# Altium footprint library PcbLib1.PcbLib: 8 footprints
Each footprint in its own frame and in the unit in brackets; x right, y up, seen from the top. Pads: shape width x height; smd on the part's side, far side on the other; paste and mask are expansions set on the pad; w line width, h text height; cw(c..) or ccw(c..) is an arc to the next point about the centre after c.
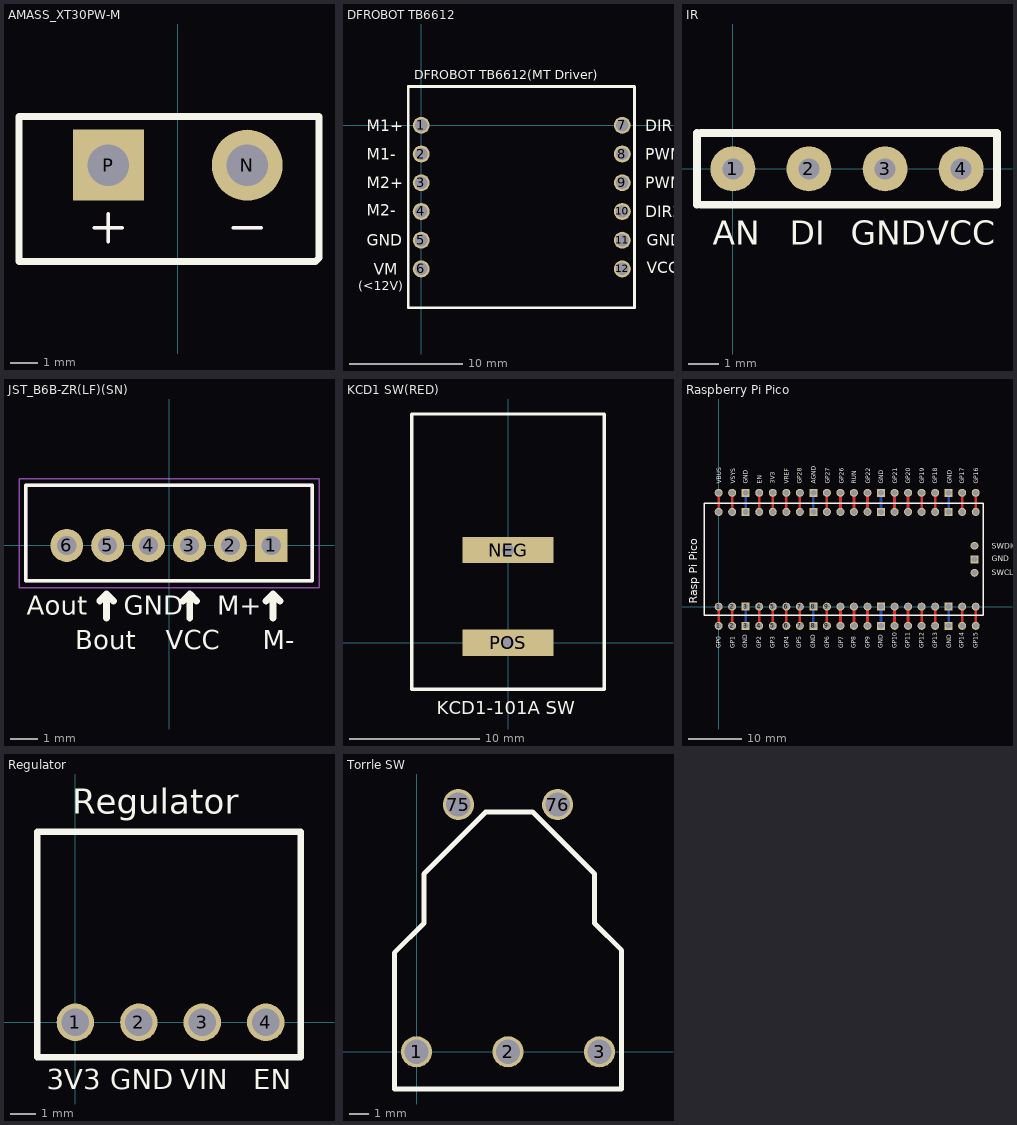
[diagram p0: the footprints below, top view; thin cyan lines are the x and y axes]

## AMASS_XT30PW-M [mm]
height 5
pads (2):
  round 2.55 hole 1.5: N(2.5,-10)
  rect 2.55x2.55 hole 1.5: P(-2.5,-10)
Top Overlay:
  lines w0.127: -3,-12.25 -2,-12.25 ; -2.5,-12.75 -2.5,-11.75 ; 2,-12.25 3,-12.25
  lines w0.254: -5.715,-13.462 4.953,-13.462 5.08,-13.335 5.08,-12.7 5.08,-8.255 -5.715,-8.255 -5.715,-13.462
Mechanical 13:
  lines w0.127: -3,-12.25 -2,-12.25 ; -2.5,-12.75 -2.5,-11.75 ; 2,-12.25 3,-12.25

## DFROBOT TB6612 [mm]
pads (12):
  round 1.5 hole 1.1: 1(0,0) 2(0,-2.54) 3(0,-5.08) 4(0,-7.62) 5(0,-10.16) 6(0,-12.7) 7(17.78,0) 8(17.78,-2.54) 9(17.78,-5.08) 10(17.78,-7.62) 11(17.78,-10.16) 12(17.78,-12.7)
Top Overlay:
  lines w0.254: -1.143,3.371 -1.143,-16.129 18.857,-16.129 18.857,3.371 ; -1.143,3.429 18.857,3.429
  text "(<12V)" at -5.588,-14.605 h0.8
  text "VM" at -4.191,-13.208 h1
  text "M2-" at -4.826,-8.001 h1
  text "VCC" at 19.939,-13.081 h1
  text "GND" at 19.939,-10.668 h1
  text "DIR2" at 19.812,-8.128 h1
  text "PWM2" at 19.812,-5.588 h1
  text "PWM1" at 19.812,-3.048 h1
  text "DIR1" at 19.812,-0.508 h1
  text "M1+" at -4.826,-0.508 h1
  text "M1-" at -4.826,-3.048 h1
  text "M2+" at -4.826,-5.588 h1
  text "GND" at -4.826,-10.668 h1
  text "DFROBOT TB6612(MT Driver)" at -0.635,4.064 h0.8

## IR [mm]
pads (4):
  round 1.5 hole 0.7: 1(0,0) 2(2.54,0) 3(5.08,0) 4(7.62,0)
Top Overlay:
  lines w0.254: -1.2,-1.2 -1.2,0 -1.2,1.2 ; -1.08,-1.2 8.82,-1.2 8.82,1.2 -1.08,1.2
  text "VCC" at 6.477,-2.54 h0.8
  text "AN" at -0.666,-2.54 h0.8
  text "DI" at 1.905,-2.54 h0.8
  text "GND" at 3.937,-2.54 h0.8
3D body "DS1023-14S21 angle type v3.step": height 1.2, standoff -3.1, extent -1.27,-0.254 8.89,10.799

## JST_B6B-ZR(LF)(SN) [mm]
height 4.5
pads (6):
  rect 1.208x1.208 / inner round 1.208 / far side rect 1.208x1.208 hole 0.7: 1(3.75,0)
  round 1.208 hole 0.7: 2(2.25,0) 3(0.75,0) 4(-0.75,0) 5(-2.25,0) 6(-3.75,0)
Top Overlay:
  lines w0.127: -5.25,-1.3 5.25,-1.3 5.25,2.2 -5.25,2.2 -5.25,-1.3
  lines w0.254: -2.54,-2.032 -2.286,-1.778 ; -2.286,-2.667 -2.286,-1.778 ; -2.032,-2.032 -2.286,-1.778 ; 0.508,-2.032 0.762,-1.778 ; 0.762,-2.667 0.762,-1.778 ; 1.016,-2.032 0.762,-1.778 ; 3.556,-2.032 3.81,-1.778 ; 3.81,-2.667 3.81,-1.778 ; 4.064,-2.032 3.81,-1.778
  text "M+" at 1.778,-2.54 h0.7
  text "M-" at 3.429,-3.81 h0.7
  text "VCC" at -0.127,-3.81 h0.7
  text "GND" at -1.651,-2.54 h0.7
  text "Bout" at -3.429,-3.81 h0.7
  text "Aout" at -5.207,-2.54 h0.7
Mechanical 13:
  lines w0.127: -5.25,-1.3 5.25,-1.3 5.25,2.2 -5.25,2.2 -5.25,-1.3
Mechanical 15:
  lines w0.05: -5.5,-1.55 5.5,-1.55 5.5,2.45 -5.5,2.45 -5.5,-1.55

## KCD1 SW(RED) [mm] "KCD1 SW(RED)"
pads (2):
  rect 7x2 hole 0.95 square: NEG(0,7.1)
  rect 7x2 hole 0.9 square: POS(0,0)
Top Overlay:
  lines w0.254: -7.366,-3.556 7.366,-3.556 7.366,17.526 -7.366,17.526 -7.366,-3.556
  text "KCD1-101A SW" at -5.461,-5.461 h1
3D body "Rocker Switch_KCD1-101_2pin.stp": height 17.84, standoff -5.8, extent -7.334,-3.565 7.366,17.535

## Raspberry Pi Pico [mm] "Raspberry Pi Pico"
pads (85):
  round 1.5 hole 1.1: 1(0,-3.596) 1(0,0) 2(2.54,-3.596) 2(2.54,0) 4(7.62,-3.596) 4(7.62,0) 5(10.16,-3.596) 5(10.16,0) 6(12.7,-3.596) 6(12.7,0) 7(15.24,-3.596) 7(15.24,0) 9(20.32,-3.596) 9(20.32,0) 10(22.86,-3.596) 10(22.86,0) 11(25.4,-3.596) 11(25.4,0) 12(27.94,-3.596) 12(27.94,0) 14(33.02,-3.596) 14(33.02,0) 15(35.56,-3.596) 15(35.56,0) 16(38.1,-3.596) 16(38.1,0) 17(40.64,-3.596) 17(40.64,0) 19(45.72,-3.596) 19(45.72,0) 20(48.26,-3.596) 20(48.26,0) 21(48.26,17.78) 21(48.26,21.376) 22(45.72,17.78) 22(45.72,21.376) 24(40.64,17.78) 24(40.64,21.376) 25(38.1,17.78) 25(38.1,21.376) 26(35.56,17.78) 26(35.56,21.376) 27(33.02,17.78) 27(33.02,21.376) 29(27.94,17.78) 29(27.94,21.376) 30(25.4,17.78) 30(25.4,21.376) 31(20.32,17.78) 31(20.32,21.376) 31(22.86,17.78) 31(22.86,21.376) 32(20.32,17.78) 32(20.32,21.376) 34(15.24,17.78) 34(15.24,21.376) 35(12.7,17.78) 35(12.7,21.376) 36(10.16,17.78) 36(10.16,21.376) 37(7.62,17.78) 37(7.62,21.376) 39(2.54,17.78) 39(2.54,21.376) 40(0,17.78) 40(0,21.376) SWCLK(48.03,6.35) SWDIO(48.03,11.43)
  rect 1.5x1.5 hole 1.1: 3(5.08,-3.596) 3(5.08,0) 8(17.78,-3.596) 8(17.78,0) 13(30.48,-3.596) 13(30.48,0) 18(43.18,-3.596) 18(43.18,0) 23(43.18,17.78) 23(43.18,21.376) 28(30.48,17.78) 28(30.48,21.376) 33(17.78,17.78) 33(17.78,21.376) 38(5.08,17.78) 38(5.08,21.376) GND(48.03,8.89)
Top Layer:
  lines w0.5: 0,-3.596 0,0 ; 0,17.78 0,21.376 ; 2.54,-3.596 2.54,0 ; 2.54,17.78 2.54,21.376 ; 7.62,-3.596 7.62,0 ; 7.62,17.78 7.62,21.376 ; 10.16,-3.596 10.16,0 ; 10.16,17.78 10.16,21.376 ; 12.7,-3.596 12.7,0 ; 12.7,17.78 12.7,21.376 ; 15.24,-3.596 15.24,0 ; 15.24,17.78 15.24,21.376 ; 20.32,-3.596 20.32,0 ; 20.32,17.78 20.32,21.376 ; 22.86,-3.596 22.86,0 ; 22.86,17.78 22.86,21.376 ; 25.4,-3.596 25.4,0 ; 25.4,17.78 25.4,21.376 ; 27.94,-3.596 27.94,0 ; 27.94,17.78 27.94,21.376 ; 33.02,-3.596 33.02,0 ; 33.02,17.78 33.02,21.376 ; 35.56,-3.596 35.56,0 ; 35.56,17.78 35.56,21.376 ; 38.1,-3.596 38.1,0 ; 38.1,17.78 38.1,21.376 ; 40.64,-3.596 40.64,0 ; 40.64,17.78 40.64,21.376 ; 45.72,-3.596 45.72,0 ; 45.72,17.78 45.72,21.376 ; 48.26,-3.596 48.26,0 ; 48.26,17.78 48.26,21.376
Bottom Layer:
  lines w0.5: 5.08,-3.596 5.08,0 ; 5.08,17.78 5.08,21.376 ; 17.78,-3.596 17.78,0 ; 17.78,17.78 17.78,21.376 ; 30.48,-3.596 30.48,0 ; 30.48,17.78 30.48,21.376 ; 43.18,-3.596 43.18,0 ; 43.18,17.78 43.18,21.376
Top Overlay:
  lines w0.254: -2.667,-1.651 -2.667,19.431 49.657,19.431 49.657,-1.651 -2.667,-1.651
  text "SWCLK" at 51.254,5.859 h1
  text "GND" at 51.254,8.491 h1
  text "SWDIO" at 51.254,10.888 h1
  text "GP16" at 48.741,23.054 h0.8
  text "GP17" at 46.109,23.054 h0.8
  text "GND" at 43.713,23.054 h0.8
  text "GP18" at 41.081,23.054 h0.8
  text "GP19" at 38.581,23.054 h0.8
  text "GP20" at 35.949,23.054 h0.8
  text "GP21" at 33.553,23.054 h0.8
  text "GND" at 30.921,23.054 h0.8
  text "GP22" at 28.473,23.054 h0.8
  text "RUN" at 25.842,23.054 h0.8
  text "GP26" at 23.445,23.054 h0.8
  text "GP27" at 20.814,23.054 h0.8
  text "AGND" at 18.223,23.054 h0.8
  text "GP28" at 15.591,23.054 h0.8
  text "VREF" at 13.195,23.054 h0.8
  text "3V3" at 10.563,23.054 h0.8
  text "EN" at 8.115,23.054 h0.8
  text "GND" at 5.484,23.054 h0.8
  text "VSYS" at 3.087,23.054 h0.8
  text "VBUS" at 0.456,23.054 h0.8
  text "GP15" at 48.666,-7.846 h0.8
  text "GP14" at 46.035,-7.846 h0.8
  text "GND" at 43.638,-7.846 h0.8
  text "GP13" at 41.007,-7.846 h0.8
  text "GP12" at 38.506,-7.846 h0.8
  text "GP11" at 35.875,-7.846 h0.8
  text "GP10" at 33.478,-7.846 h0.8
  text "GND" at 30.847,-7.846 h0.8
  text "GP9" at 28.399,-7.846 h0.8
  text "GP8" at 25.767,-7.846 h0.8
  text "GP7" at 23.371,-7.846 h0.8
  text "GP6" at 20.739,-7.846 h0.8
  text "GND" at 18.148,-7.846 h0.8
  text "GP5" at 15.517,-7.846 h0.8
  text "GP4" at 13.12,-7.846 h0.8
  text "GP3" at 10.489,-7.846 h0.8
  text "GP2" at 8.041,-7.846 h0.8
  text "GND" at 5.409,-7.846 h0.8
  text "GP1" at 3.013,-7.846 h0.8
  text "GP0" at 0.381,-7.846 h0.8
  text "Rasp Pi Pico" at -4.063,0.508 h1.52

## Regulator [mm]
pads (4):
  round 1.5 hole 1.1: 1(0,0) 2(2.54,0) 3(5.08,0) 4(7.62,0)
Top Overlay:
  lines w0.254: -1.524,-1.397 -1.524,0 -1.524,6.477 -1.524,7.62 9.017,7.62 9.017,-1.397 -1.524,-1.397
  text "3V3" at -1.143,-2.667 h0.8
  text "VIN" at 4.191,-2.667 h0.8
  text "GND" at 1.397,-2.667 h0.8
  text "EN" at 7.112,-2.667 h0.8
  text "Regulator" at -0.127,8.334 h1

## Torrle SW [mm]
pads (5):
  round 1.6 hole 1.25: 1(0,0) 2(4.7,0) 3(9.4,0) 75(2.15,12.7) 76(7.25,12.7)
Top Overlay:
  lines w0.254: 5.966,12.316 5.585,12.316 3.553,12.316 0.381,9.144 0.381,6.604 -1.143,5.08 -1.143,-1.912 4.7,-1.912 10.541,-1.912 10.541,5.207 9.144,6.604 9.144,9.144 5.969,12.319